# EAGLE library part TLD5095EL (library hsk_2012)
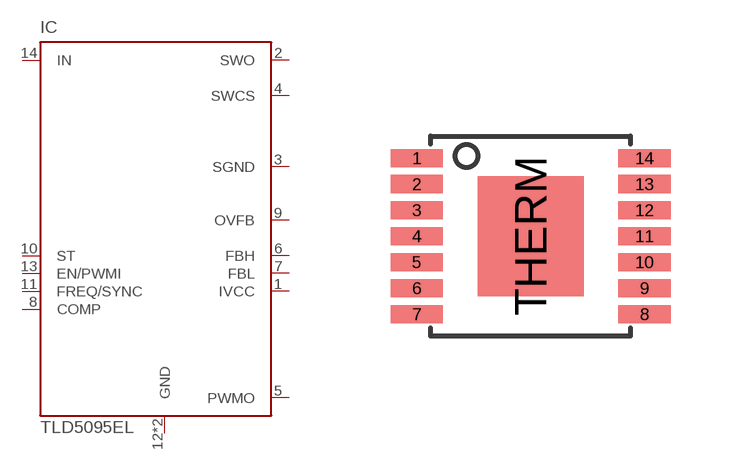
[diagram p18: symbol with the pads of PG-SSOP-14; footprint PG-SSOP-14]

Designator prefix IC

## TLD5095EL_REV  [PG-SSOP-14]
1  IVCC  out
2  SWO  out
3  SGND  sup
4  SWCS  in
5  PWMO  out
6  FBH  pwr
7  FBL  pwr
8  COMP  in
9  OVFB  out
10  ST  out
11  FREQ/SYNC  in
12  GND  sup
13  EN/PWMI  in
14  IN  pwr
THERM  GND  sup

## Footprint PG-SSOP-14 (pad centres in mm)
smd 1.31 x 0.45: 1 -2.845,1.95; 2 -2.845,1.3; 3 -2.845,0.65; 4 -2.845,0; 5 -2.845,-0.65; 6 -2.845,-1.3; 7 -2.845,-1.95; 8 2.845,-1.95; 9 2.845,-1.3; 10 2.845,-0.65; 11 2.845,0; 12 2.845,0.65; 13 2.845,1.3; 14 2.845,1.95
smd 2.65 x 3: THERM 0,0